# Altium footprint library ESD7008MUTAG.PcbLib: 1 footprints
Each footprint in its own frame and in the unit in brackets; x right, y up, seen from the top. Pads: shape width x height; smd on the part's side, far side on the other; paste and mask are expansions set on the pad; w line width, h text height; cw(c..) or ccw(c..) is an arc to the next point about the centre after c.
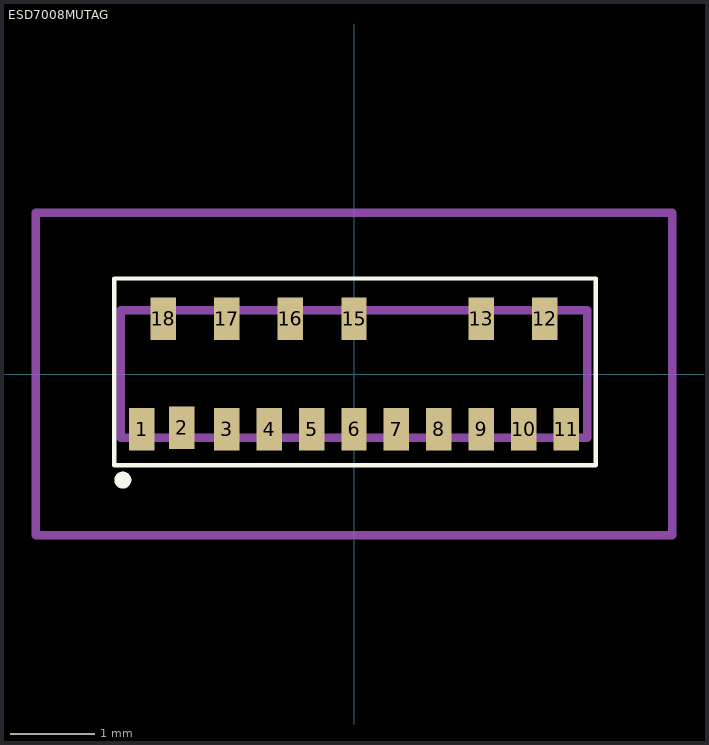
[diagram p0: the footprint, top view; thin cyan lines are the x and y axes]

## ESD7008MUTAG [mm]
pads (17):
  rect 0.3x0.5 smd: 1(-2.5,-0.65) 2(-2.032,-0.635) 3(-1.5,-0.65) 4(-1,-0.65) 5(-0.5,-0.65) 6(0,-0.65) 7(0.5,-0.65) 8(1,-0.65) 9(1.5,-0.65) 10(2,-0.65) 11(2.5,-0.65) 12(2.25,0.65) 13(1.5,0.65) 15(0,0.65) 16(-0.75,0.65) 17(-1.5,0.65) 18(-2.25,0.65)
Top Overlay:
  lines w0.051: -2.825,-1.075 2.85,-1.075 2.85,1.125 -2.825,1.125 -2.825,-1.075
  lines w0.1: -2.725,-1.3 ccw(c-2.725,-1.25) -2.725,-1.2 ccw(c-2.725,-1.25) -2.675,-1.25
Mechanical 15:
  lines w0.1: -2.75,-0.75 -2.75,0.75 2.75,0.75 2.75,-0.75 -2.75,-0.75
Mechanical 20:
  lines w0.1: -3.75,-1.9 -3.75,1.9 3.75,1.9 3.75,-1.9 -3.75,-1.9
3D body "ESD7008MUTAG.stp": height 0.52, standoff 0, extent -2.775,-0.864 2.725,0.656